# Altium footprint library PcbLib1.PcbLib: 1 footprints
Each footprint in its own frame and in the unit in brackets; x right, y up, seen from the top. Pads: shape width x height; smd on the part's side, far side on the other; paste and mask are expansions set on the pad; w line width, h text height; cw(c..) or ccw(c..) is an arc to the next point about the centre after c.
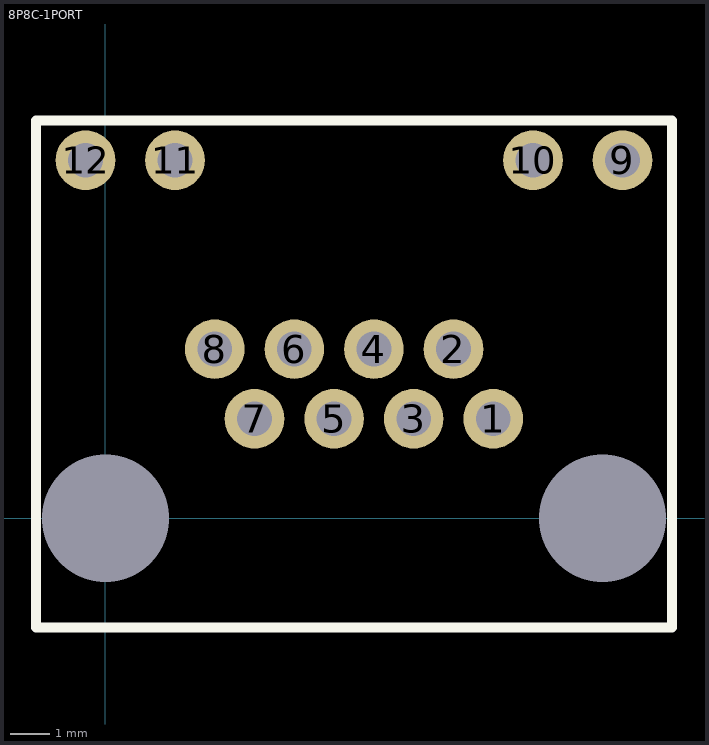
[diagram p0: the footprint, top view; thin cyan lines are the x and y axes]

## 8P8C-1PORT [mil]
pads (14):
  round 60 hole 35: 1(390,100) 2(350,170) 3(310,100) 4(270,170) 5(230,100) 6(190,170) 7(150,100) 8(110,170) 9(520,360) 10(430,360) 11(70,360) 12(-20,360)
  round 0 hole 128: ""(0,0) ""(500,0)
Top Overlay:
  lines w10: -70,-110 -70,400 570,400 570,-110 -70,-110